# Altium schematic symbol library Secret.SchLib: 7 symbols
Pins are listed as number, name and electrical type; pins without a type are passive.

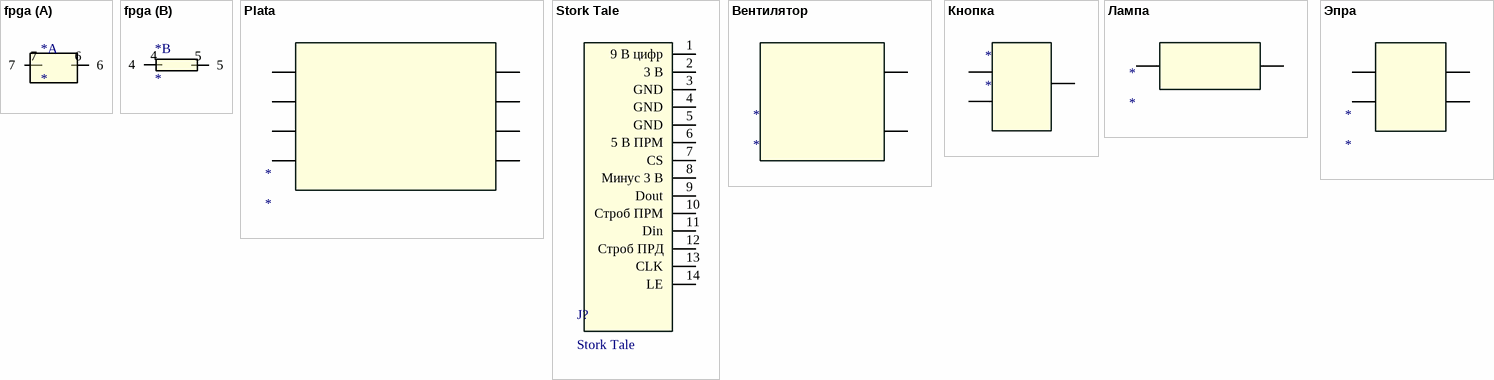
[diagram p0: symbols fpga to Эпра]

## fpga
designator *
footprint FPC-15
part A pins: 6, 7
part B pins: 4, 5

## Plata
designator *
pins: 1 WF-2, 1 WF-2, 1 WF-2, 1 WF-2, 1 WF-2, 1 WF-2, 1 WF-2, 1 WF-2

## Stork Tale
designator J?
footprint Stork Tale
pins: 1 9 B цифр, 2 3 B, 3 GND, 4 GND, 5 GND, 6 5 B ПРМ, 7 CS, 8 Минус 3 В, 9 Dout, 10 Строб ПРМ, 11 Din, 12 Строб ПРД, 13 CLK, 14 LE

## Вентилятор
designator *
pins: 5 DGR 142R-04, 5 DGR 142R-04

## Кнопка
designator *
pins: 3 DGR 142R-02, 3 DGR 142R-02, 3 DGR 142R-02

## Лампа
designator *
pins: 7 DGR 142R-06, 8 DGR 142R-07

## Эпра
designator *
pins: 3 DGR 142R-02, 3 DGR 142R-02, 3 DGR 142R-02, 3 DGR 142R-02